# Altium schematic symbol library SN65HVD20.SchLib: 1 symbol
Pins are listed as number, name and electrical type; pins without a type are passive.

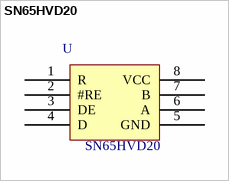
[diagram p0: symbol SN65HVD20]

## SN65HVD20
designator U  value SN65HVD20  (hidden comment: *)
Manufacturer: Texas Instruments; Manufacturer Code: SN65HVD20D; Unit Price: 3,56 €; Farnell Code: 1212361
footprint SO8
pins: 1 R, 2 #RE, 3 DE, 4 D, 5 GND, 6 A, 7 B, 8 VCC